# EAGLE library part U2010B (library U2010B)
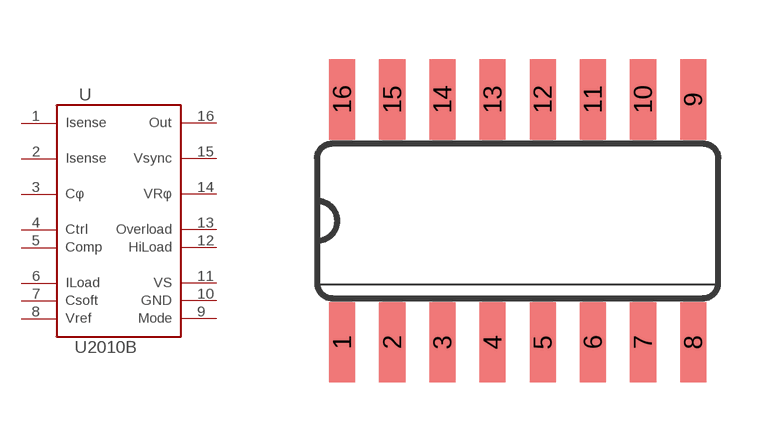
[diagram p0: symbol with the pads of SO16; footprint SO16]

Designator prefix -

## U2010B  [SO16]
1  ISENSE1  in
2  ISENSE2  in
3  COS
4  CONTROL
5  COMP
6  ILOAD
7  CSOFT
8  VREF  out
9  MODE
10  GND  pwr
11  VS  pwr
12  HLOAD
13  OVERLOAD
14  VR
15  VSYNC  in
16  OUTPUT  out

## Footprint SO16 (pad centres in mm)
Small Outline Package
smd 0.66 x 2.032: 1 -4.445,-3.073; 2 -3.175,-3.073; 3 -1.905,-3.073; 4 -0.635,-3.073; 5 0.635,-3.073; 6 1.905,-3.073; 7 3.175,-3.073; 8 4.445,-3.073; 9 4.445,3.073; 10 3.175,3.073; 11 1.905,3.073; 12 0.635,3.073; 13 -0.635,3.073; 14 -1.905,3.073; 15 -3.175,3.073; 16 -4.445,3.073